# Altium footprint library Footprints.PcbLib: 146 footprints (part 3 of 10)
Each footprint in its own frame and in the unit in brackets; x right, y up, seen from the top. Pads: shape width x height; smd on the part's side, far side on the other; paste and mask are expansions set on the pad; w line width, h text height; cw(c..) or ccw(c..) is an arc to the next point about the centre after c.
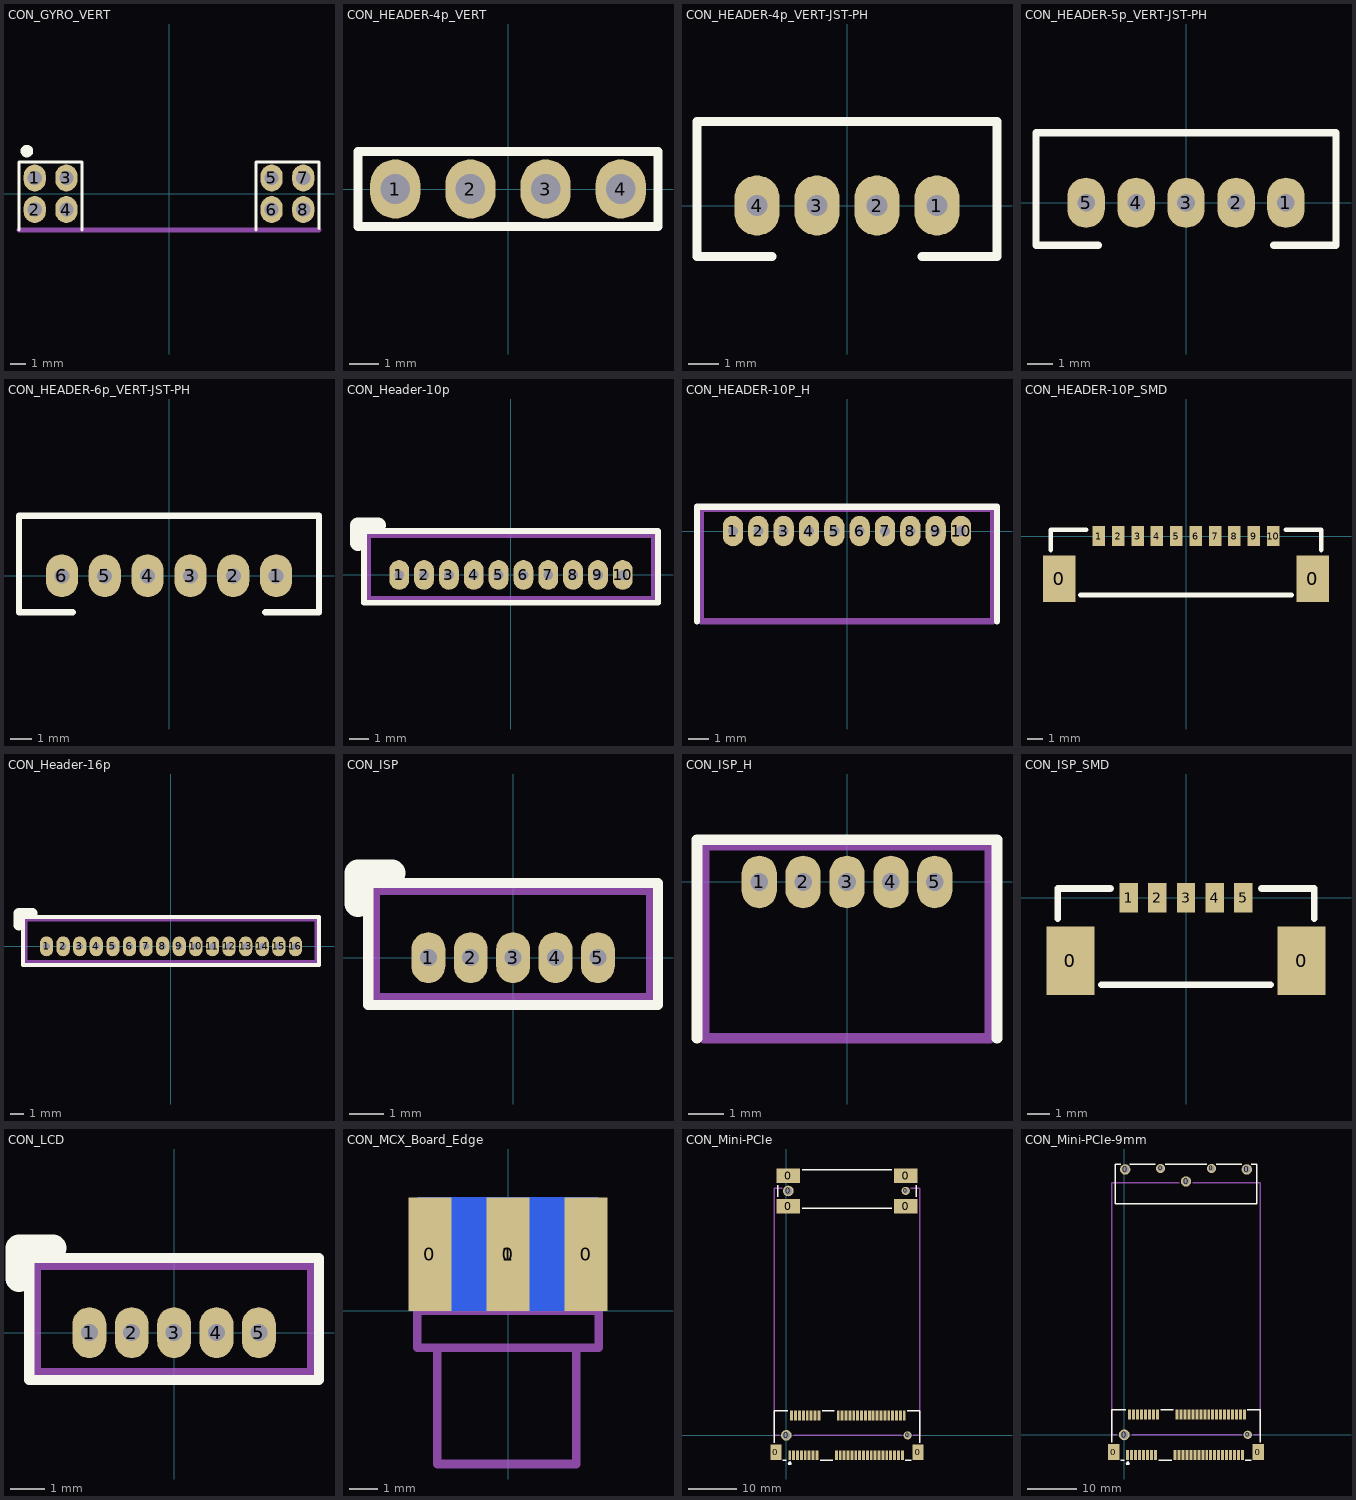
[diagram p2: the footprints below, top view; thin cyan lines are the x and y axes]

## CON_GYRO_VERT [mm]
height 4.3
pads (8):
  oval 1.4x1.7 hole 0.9: 1(-8.5,1) 2(-8.5,-1) 3(-6.5,1) 4(-6.5,-1) 5(6.5,1) 6(6.5,-1) 7(8.5,1) 8(8.5,-1)
Top Overlay:
  circle w0.4: c-9,2.7 r0.2
  lines w0.2: -9.5,-2.3 -9.5,2 -5.5,2 -5.5,-2.3 ; 5.5,-2.3 5.5,2 9.5,2 9.5,-2.2
Mechanical 1:
  lines w0.3: -9.5,-2.3 9.5,-2.3

## CON_HEADER-4p_VERT [mm] "2.54mm pitch"
height 8
pads (4):
  oval 1.7x2 hole 1: 1(-3.81,0) 2(-1.27,0) 3(1.27,0) 4(3.81,0)
Top Overlay:
  lines w0.3: -5.07,-1.27 -5.07,1.27 5.07,1.27 5.07,-1.27 -5.07,-1.27

## CON_HEADER-4p_VERT-JST-PH [mm] "2mm pitch"
height 8
pads (4):
  oval 1.5x2 hole 0.7: 1(3,0) 2(1,0) 3(-1,0) 4(-3,0)
Top Overlay:
  lines w0.3: -2.5,-1.7 -5,-1.7 -5,2.8 5,2.8 5,-1.7 2.5,-1.7

## CON_HEADER-5p_VERT-JST-PH [mm] "2mm pitch"
height 8
pads (5):
  oval 1.5x2 hole 0.7: 1(4,0) 2(2,0) 3(0,0) 4(-2,0) 5(-4,0)
Top Overlay:
  lines w0.3: -3.5,-1.7 -6,-1.7 -6,2.8 6,2.8 6,-1.7 3.5,-1.7

## CON_HEADER-6p_VERT-JST-PH [mm] "2mm pitch"
height 8
pads (6):
  oval 1.5x2 hole 0.7: 1(5,0) 2(3,0) 3(1,0) 4(-1,0) 5(-3,0) 6(-5,0)
Top Overlay:
  lines w0.3: -4.5,-1.7 -7,-1.7 -7,2.8 7,2.8 7,-1.7 4.5,-1.7

## CON_Header-10p [mm] "1.25mm pitch header"
height 4.2
pads (10):
  oval 1x1.5 hole 0.5: 1(-5.625,0) 2(-4.375,0) 3(-3.125,0) 4(-1.875,0) 5(-0.625,0) 6(0.625,0) 7(1.875,0) 8(3.125,0) 9(4.375,0) 10(5.625,0)
Top Overlay:
  lines w0.3: -7.4,-1.4 -7.4,2.2 7.4,2.2 7.4,-1.4 -7.4,-1.4
  lines w0.8: -7.7,1.6 -7.7,2.5 -6.7,2.5
Mechanical 1:
  lines w0.3: -7.2,-1.2 -7.2,2 7.2,2 7.2,-1.2 -7.2,-1.2

## CON_HEADER-10P_H [mm] "10 pin header horizontal"
height 3.5
pads (10):
  oval 1x1.5 hole 0.5: 1(-5.625,0) 2(-4.375,0) 3(-3.125,0) 4(-1.875,0) 5(-0.625,0) 6(0.625,0) 7(1.875,0) 8(3.125,0) 9(4.375,0) 10(5.625,0)
Top Overlay:
  lines w0.3: -7.4,-4.45 -7.4,1.2 7.4,1.2 7.4,-4.45
Mechanical 1:
  lines w0.3: -7.2,-4.45 7.2,-4.45 7.2,1.1 -7.2,1.1 -7.2,-4.45

## CON_HEADER-10P_SMD [mm] "1.25mm pitch header"
height 4.7
pads (12):
  rect 2.1x3 smd: 0(-8.175,-2.75) 0(8.175,-2.75)
  rect 0.8x1.3 smd: 1(-5.625,0) 2(-4.375,0) 3(-3.125,0) 4(-1.875,0) 5(-0.625,0) 6(0.625,0) 7(1.875,0) 8(3.125,0) 9(4.375,0) 10(5.625,0)
Top Overlay:
  lines w0.3: -8.725,-0.9 -8.725,0.4 -6.425,0.4 ; -6.825,-3.8 6.825,-3.8 ; 6.425,0.4 8.725,0.4 8.725,-0.9

## CON_Header-16p [mm] "1.25mm pitch header"
height 4.2
pads (16):
  oval 1x1.5 hole 0.5: 1(-9.375,0) 2(-8.125,0) 3(-6.875,0) 4(-5.625,0) 5(-4.375,0) 6(-3.125,0) 7(-1.875,0) 8(-0.625,0) 9(0.625,0) 10(1.875,0) 11(3.125,0) 12(4.375,0) 13(5.625,0) 14(6.875,0) 15(8.125,0) 16(9.375,0)
Top Overlay:
  lines w0.3: -11.15,-1.4 -11.15,2.2 11.15,2.2 11.15,-1.4 -11.15,-1.4
  lines w0.8: -11.45,1.6 -11.45,2.5 -10.45,2.5
Mechanical 1:
  lines w0.3: -10.95,-1.2 -10.95,2 10.95,2 10.95,-1.2 -10.95,-1.2

## CON_ISP [mm] "Microchip ISP Connector"
height 4.2
pads (5):
  oval 1x1.5 hole 0.5: 1(-2.5,0) 2(-1.25,0) 3(0,0) 4(1.25,0) 5(2.5,0)
Top Overlay:
  lines w0.3: -4.275,-1.4 4.275,-1.4 4.275,2.2 -4.275,2.2 -4.275,-1.4
  lines w0.8: -4.575,1.6 -4.575,2.5 -3.575,2.5
Mechanical 1:
  lines w0.3: 4,2 -4.075,2 -4.075,-1.2 4.075,-1.2 4.075,2

## CON_ISP_H [mm] "Microchip ISP Connector horizontal"
height 3.5
pads (5):
  oval 1x1.5 hole 0.5: 1(-2.5,0) 2(-1.25,0) 3(0,0) 4(1.25,0) 5(2.5,0)
Top Overlay:
  lines w0.3: -4.275,-4.45 -4.275,1.2 4.275,1.2 4.275,-4.45
Mechanical 1:
  lines w0.3: -4.075,1 -4.075,-4.45 4.075,-4.45 4.075,1 ; -4.075,1.05 4,1.05

## CON_ISP_SMD [mm] "Microchip ISP Connector"
height 4.7
pads (7):
  rect 2.1x3 smd: 0(-5.05,-2.75) 0(5.05,-2.75)
  rect 0.8x1.3 smd: 1(-2.5,0) 2(-1.25,0) 3(0,0) 4(1.25,0) 5(2.5,0)
Top Overlay:
  lines w0.3: -5.6,-0.9 -5.6,0.4 -3.3,0.4 ; -3.7,-3.8 3.7,-3.8 ; 3.3,0.4 5.6,0.4 5.6,-0.9

## CON_LCD [mm] "I2C LCD Connector"
height 4.2
pads (5):
  oval 1x1.5 hole 0.5: 1(-2.5,0) 2(-1.25,0) 3(0,0) 4(1.25,0) 5(2.5,0)
Top Overlay:
  lines w0.3: -4.275,-1.4 -4.275,2.2 4.275,2.2 4.275,-1.4 -4.275,-1.4
  lines w0.8: -4.575,1.6 -4.575,2.5 -3.575,2.5
Mechanical 1:
  lines w0.3: 4,2 -4.075,2 -4.075,-1.2 4.075,-1.2 4.075,2

## CON_MCX_Board_Edge [mm] "MCX connector board edge"
height 6.35
pads (4):
  rect 1.5x4 smd: 0(-2.75,2) 0(2.75,2) 1(0,2)
  rect 6.35x4 smd far side: 0(0,2)
Mechanical 1:
  lines w0.3: -2.5,-1.3 -2.5,-5.4 2.4,-5.4 2.4,-1.3 ; -3.2,-1.3 3.2,-1.3 3.2,0 -3.2,0 -3.2,-1.3

## CON_Mini-PCIe [mm] "Mini PCIe Connector - 9mm - Molex 679109000"
height 9
pads (62):
  rect 2.3x3.2 smd: 0(-2.15,-3.5) 0(27.15,-3.5)
  round 2.2 hole 1.6: 0(0,0) 0(0.4,50.4)
  rect 4.8x3 smd: 0(0.4,47.25) 0(0.4,53.55) 0(24.6,47.25) 0(24.6,53.55)
  round 1.7 hole 1.1: 0(24.6,50.4) 0(25,0)
  rect 0.6x2 smd: 1(0.7,-4.1) 2(1.1,4.1) 3(1.5,-4.1) 4(1.9,4.1) 5(2.3,-4.1) 6(2.7,4.1) 7(3.1,-4.1) 8(3.5,4.1) 9(3.9,-4.1) 10(4.3,4.1) 11(4.7,-4.1) 12(5.1,4.1) 13(5.5,-4.1) 14(5.9,4.1) 15(6.3,-4.1) 16(6.7,4.1) 17(10.3,-4.1) 18(10.7,4.1) 19(11.1,-4.1) 20(11.5,4.1) 21(11.9,-4.1) 22(12.3,4.1) 23(12.7,-4.1) 24(13.1,4.1) 25(13.5,-4.1) 26(13.9,4.1) 27(14.3,-4.1) 28(14.7,4.1) 29(15.1,-4.1) 30(15.5,4.1) 31(15.9,-4.1) 32(16.3,4.1) 33(16.7,-4.1) 34(17.1,4.1) 35(17.5,-4.1) 36(17.9,4.1) 37(18.3,-4.1) 38(18.7,4.1) 39(19.1,-4.1) 40(19.5,4.1) 41(19.9,-4.1) 42(20.3,4.1) 43(20.7,-4.1) 44(21.1,4.1) 45(21.5,-4.1) 46(21.9,4.1) 47(22.3,-4.1) 48(22.7,4.1) 49(23.1,-4.1) 50(23.5,4.1) 51(23.9,-4.1) 52(24.3,4.1)
Top Overlay:
  lines w0.3: -2.5,-1.5 -2.5,5.1 0.3,5.1 ; -1.8,49.2 -1.8,51.6 ; -0.7,-5.1 0,-5.1 ; 3.3,46.8 21.7,46.8 ; 3.3,54.8 21.7,54.8 ; 7,-5.1 9.6,-5.1 ; 7.4,5.1 9.9,5.1 ; 24.5,-5.1 25.7,-5.1 ; 24.9,5.1 27.5,5.1 27.5,-1.5 ; 26.8,49.2 26.8,51.6 ; 0.4,-5.9 0.7,-5.4 1,-5.9 0.4,-5.9
Mechanical 1:
  lines w0.3: -1.5,0 -2.5,0 -2.5,51 -0.9,51 ; 1.6,0 23.8,0 ; 25.6,51 27.5,51 27.5,0 26.2,0

## CON_Mini-PCIe-9mm [mm] "Mini PCIe Connector - 9mm - Molex 679109000"
height 9
pads (61):
  rect 2.3x3.2 smd: 0(-2.15,-3.5) 0(27.15,-3.5)
  round 2.2 hole 1.6: 0(0,0)
  round 2.1 hole 1.5: 0(0.2,53.7) 0(12.5,51.27) 0(24.8,53.7)
  round 1.8 hole 1.2: 0(7.35,53.9) 0(17.65,53.9)
  round 1.7 hole 1.1: 0(25,0)
  rect 0.6x2 smd: 1(0.7,-4.1) 2(1.1,4.1) 3(1.5,-4.1) 4(1.9,4.1) 5(2.3,-4.1) 6(2.7,4.1) 7(3.1,-4.1) 8(3.5,4.1) 9(3.9,-4.1) 10(4.3,4.1) 11(4.7,-4.1) 12(5.1,4.1) 13(5.5,-4.1) 14(5.9,4.1) 15(6.3,-4.1) 16(6.7,4.1) 17(10.3,-4.1) 18(10.7,4.1) 19(11.1,-4.1) 20(11.5,4.1) 21(11.9,-4.1) 22(12.3,4.1) 23(12.7,-4.1) 24(13.1,4.1) 25(13.5,-4.1) 26(13.9,4.1) 27(14.3,-4.1) 28(14.7,4.1) 29(15.1,-4.1) 30(15.5,4.1) 31(15.9,-4.1) 32(16.3,4.1) 33(16.7,-4.1) 34(17.1,4.1) 35(17.5,-4.1) 36(17.9,4.1) 37(18.3,-4.1) 38(18.7,4.1) 39(19.1,-4.1) 40(19.5,4.1) 41(19.9,-4.1) 42(20.3,4.1) 43(20.7,-4.1) 44(21.1,4.1) 45(21.5,-4.1) 46(21.9,4.1) 47(22.3,-4.1) 48(22.7,4.1) 49(23.1,-4.1) 50(23.5,4.1) 51(23.9,-4.1) 52(24.3,4.1)
Top Overlay:
  lines w0.3: -2.5,-1.5 -2.5,5.1 0.3,5.1 ; -0.7,-5.1 0,-5.1 ; -0.7,54.8 -1.8,54.8 -1.8,46.8 26.8,46.8 26.8,54.8 25.7,54.8 ; 1.1,54.8 6.3,54.8 ; 7,-5.1 9.6,-5.1 ; 7.4,5.1 9.9,5.1 ; 8.3,54.8 16.7,54.8 ; 18.6,54.8 23.8,54.8 ; 24.5,-5.1 25.7,-5.1 ; 24.9,5.1 27.5,5.1 27.5,-1.5 ; 0.4,-5.9 0.7,-5.4 1,-5.9 0.4,-5.9
Mechanical 1:
  lines w0.3: -1.5,0 -2.5,0 -2.5,51 11.1,51 ; 1.6,0 23.8,0 ; 13.9,51 27.5,51 27.5,0 26.2,0